# EAGLE library part WT12-A (library sf-bluegiga)
Class 2 Bluetooth 2.1 + EDR module, chip antenna and RF pins
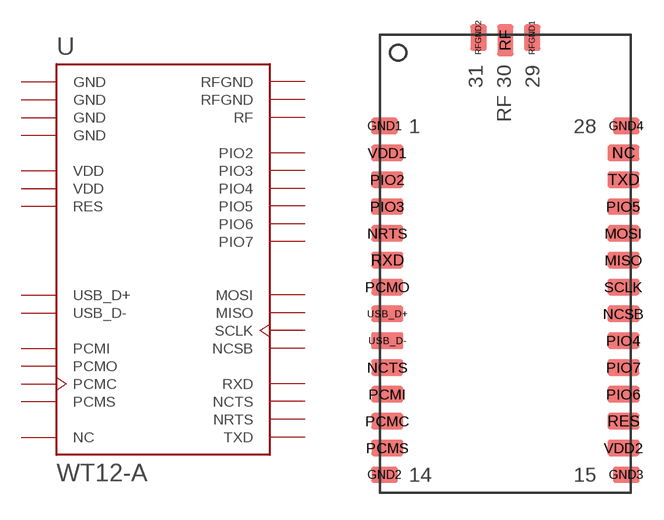
[diagram p0: symbol with the pads of WT12-A; footprint WT12-A]

Designator prefix U

## WT12-A  [WT12-A]
GND1  GND  pwr
GND2  GND  pwr
GND3  GND  pwr
GND4  GND  pwr
MISO  MISO  out
MOSI  MOSI  in
NC  NC  nc
NCSB  NCSB  in
NCTS  NCTS  in
NRTS  NRTS  out
PCMC  PCMC
PCMI  PCMI  in
PCMO  PCMO  out
PCMS  PCMS
PIO2  PIO2
PIO3  PIO3
PIO4  PIO4
PIO5  PIO5
PIO6  PIO6
PIO7  PIO7
RES  RES  in
RF  RF
RFGND1  RFGND
RFGND2  RFGND
RXD  RXD  in
SCLK  SCLK  in
TXD  TXD  out
USB_D+  USB_D+
USB_D-  USB_D-
VDD1  VDD  pwr
VDD2  VDD  pwr

## Footprint WT12-A (pad centres in mm)
Class 2 Bluetooth 2.1 + EDR module, chip antenna and RF pins
smd 1.478 x 0.914: GND1 -6.75,7.7; GND2 -6.75,-11.8; GND3 6.75,-11.8; GND4 6.75,7.7
smd 1.778 x 0.914: MISO 6.6,0.2; MOSI 6.6,1.7; NC 6.6,6.2; NCSB 6.6,-2.8; NCTS -6.6,-5.8; NRTS -6.6,1.7; PCMC -6.6,-8.8; PCMI -6.6,-7.3; PCMO -6.6,-1.3; PCMS -6.6,-10.3; PIO2 -6.6,4.7; PIO3 -6.6,3.2; PIO4 6.6,-4.3; PIO5 6.6,3.2; PIO6 6.6,-7.3; PIO7 6.6,-5.8; RES 6.6,-8.8; RXD -6.6,0.2; SCLK 6.6,-1.3; TXD 6.6,4.7; USB_D+ -6.6,-2.8; USB_D- -6.6,-4.3; VDD1 -6.6,6.2; VDD2 6.6,-10.3
smd 0.914 x 1.778: RF 0,12.5
smd 0.914 x 1.478: RFGND1 1.5,12.65; RFGND2 -1.5,12.65